# EAGLE library part Z1 (library z1)
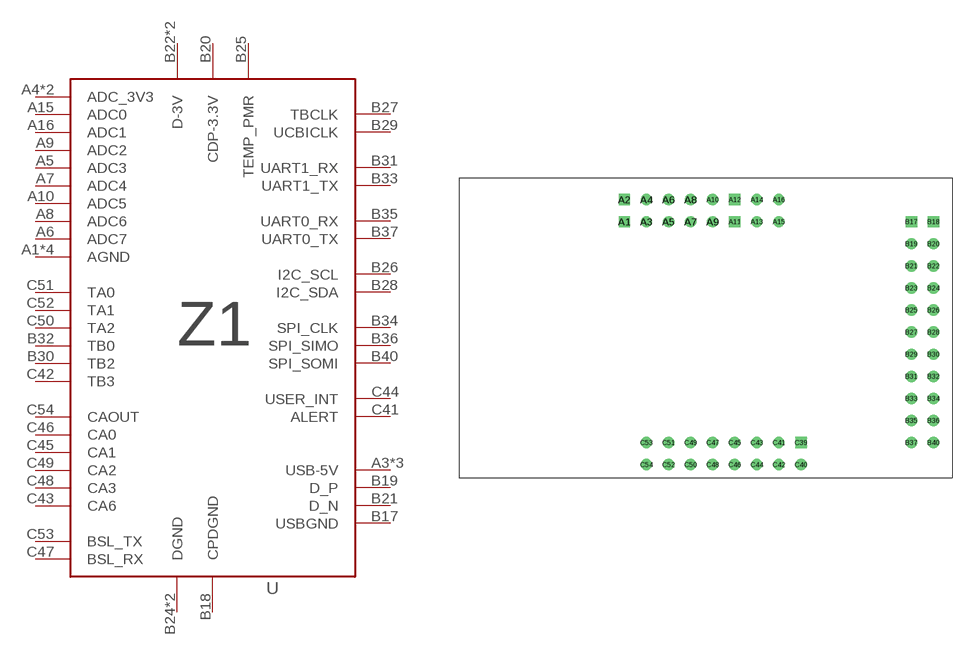
[diagram p0: symbol with the pads of Z1; footprint Z1]

Designator prefix -

## Z1  [Z1]
A1  AGND
A2  AGND
A3  USB-5V  pwr
A4  ADC_3V3  pwr
A5  ADC3
A6  ADC7
A7  ADC4
A8  ADC6
A9  ADC2
A10  ADC5
A11  AGND
A12  AGND
A13  USB-5V  pwr
A14  ADC_3V3  pwr
A15  ADC0
A16  ADC1
B17  USBGND
B18  CPDGND
B19  D_P
B20  CDP-3.3V
B21  D_N
B22  D-3V
B23  USB-5V  pwr
B24  DGND
B25  TEMP_PMR
B26  I2C_SCL
B27  TBCLK
B28  I2C_SDA
B29  UCBICLK
B30  TB2
B31  UART1_RX
B32  TB0
B33  UART1_TX
B34  SPI_CLK
B35  UART0_RX
B36  SPI_SIMO
B37  UART0_TX
B40  SPI_SOMI
C39  DGND
C40  D-3V
C41  ALERT
C42  TB3
C43  CA6
C44  USER_INT
C45  CA1
C46  CA0
C47  BSL_RX
C48  CA3
C49  CA2
C50  TA2
C51  TA0
C52  TA1
C53  BSL_TX
C54  CAOUT

## Footprint Z1 (pad centres in mm)
drill 0.8 square: A1 17.78,-5.08; A2 17.78,-2.54; A11 30.48,-5.08; A12 30.48,-2.54; B17 50.8,-5.08; B18 53.34,-5.08; C39 38.1,-30.48
drill 0.8: A3 20.32,-5.08; A4 20.32,-2.54; A5 22.86,-5.08; A6 22.86,-2.54; A7 25.4,-5.08; A8 25.4,-2.54; A9 27.94,-5.08; A10 27.94,-2.54; A13 33.02,-5.08; A14 33.02,-2.54; A15 35.56,-5.08; A16 35.56,-2.54; B19 50.8,-7.62; B20 53.34,-7.62; B21 50.8,-10.16; B22 53.34,-10.16; B23 50.8,-12.7; B24 53.34,-12.7; B25 50.8,-15.24; B26 53.34,-15.24; B27 50.8,-17.78; B28 53.34,-17.78; B29 50.8,-20.32; B30 53.34,-20.32; B31 50.8,-22.86; B32 53.34,-22.86; B33 50.8,-25.4; B34 53.34,-25.4; B35 50.8,-27.94; B36 53.34,-27.94; B37 50.8,-30.48; B40 53.34,-30.48; C40 38.1,-33.02; C41 35.56,-30.48; C42 35.56,-33.02; C43 33.02,-30.48; C44 33.02,-33.02; C45 30.48,-30.48; C46 30.48,-33.02; C47 27.94,-30.48; C48 27.94,-33.02; C49 25.4,-30.48; C50 25.4,-33.02; C51 22.86,-30.48; C52 22.86,-33.02; C53 20.32,-30.48; C54 20.32,-33.02